# EAGLE library part ESP32-CAM (library CanCubeSat)
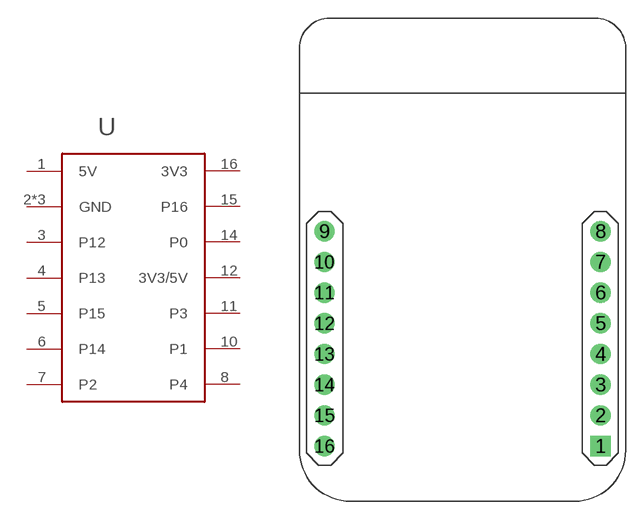
[diagram p36: symbol with the pads of ESP32-CAM; footprint ESP32-CAM]

Designator prefix -

## ESP32-CAM  [ESP32-CAM]
1  5V
2  GND
3  P12
4  P13
5  P15
6  P14
7  P2
8  P4
9  GND
10  P1
11  P3
12  3V3/5V
13  GND
14  P0
15  P16
16  3V3

## Footprint ESP32-CAM (pad centres in mm)
drill 1.12 square: 1 11.43,-15.42
drill 1.12: 2 11.43,-12.88; 3 11.43,-10.34; 4 11.43,-7.8; 5 11.43,-5.26; 6 11.43,-2.72; 7 11.43,-0.18; 8 11.43,2.36; 9 -11.43,2.36; 10 -11.43,-0.18; 11 -11.43,-2.72; 12 -11.43,-5.26; 13 -11.43,-7.8; 14 -11.43,-10.34; 15 -11.43,-12.88; 16 -11.43,-15.42